# EAGLE library part CIS_CARD (library CougsInSpace-Connectors)
CougSat Card Socket
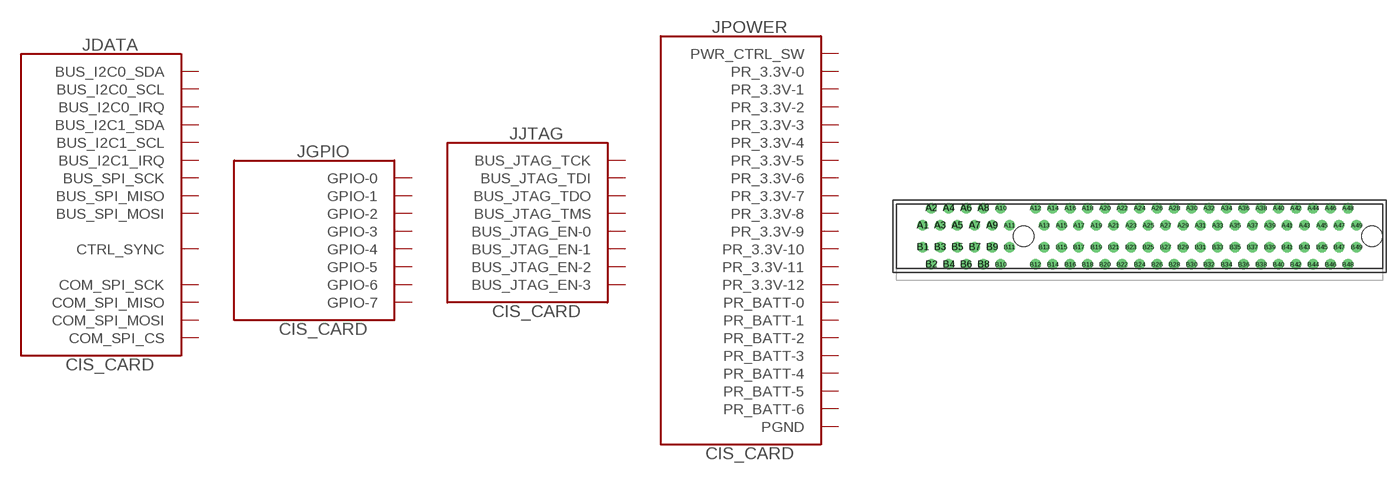
[diagram p3: symbol with the pads of PCIE-8; footprint PCIE-8]

Designator prefix J; gates DATA=CIS_BUS-DATA GPIO=CIS_BUS-GPIO JTAG=CIS_BUS-JTAG POWER=CIS_BUS-POWER

## CIS_CARD-PCIE (SKU: 05-0006; VALUE: CougSat Socket)  [PCIE-8]
A1  POWER:PR_3.3V-0  pwr
A2  POWER:PR_3.3V-1  pwr
A3  POWER:PR_3.3V-2  pwr
A4  POWER:PR_3.3V-3  pwr
A5  POWER:PR_3.3V-4  pwr
A6  POWER:PR_3.3V-5  pwr
A7  POWER:PR_3.3V-6  pwr
A8  POWER:PR_3.3V-7  pwr
A9  POWER:PR_3.3V-8  pwr
A10  POWER:PR_3.3V-9  pwr
A11  POWER:PR_3.3V-10  pwr
A12  POWER:PR_3.3V-11  pwr
A13  POWER:PR_3.3V-12  pwr
A14  POWER:PR_BATT-0  pwr
A15  POWER:PR_BATT-1  pwr
A16  POWER:PR_BATT-2  pwr
A17  POWER:PR_BATT-3  pwr
A18  POWER:PR_BATT-4  pwr
A19  POWER:PR_BATT-5  pwr
A20  POWER:PR_BATT-6  pwr
A21  POWER:PGND  pwr
A22  POWER:PGND  pwr
A23  POWER:PGND  pwr
A24  GPIO:GPIO-0
A25  GPIO:GPIO-1
A26  GPIO:GPIO-2
A27  GPIO:GPIO-3
A28  GPIO:GPIO-4
A29  GPIO:GPIO-5
A30  DATA:BUS_I2C1_SDA
A31  DATA:BUS_I2C1_SCL
A32  DATA:BUS_I2C1_IRQ
A33  DATA:COM_SPI_SCK
A34  DATA:COM_SPI_MISO
A35  DATA:COM_SPI_MOSI
A36  DATA:COM_SPI_CS
A37  DATA:BUS_SPI_SCK
A38  DATA:BUS_SPI_MISO
A39  DATA:BUS_SPI_MOSI
A40  POWER:PWR_CTRL_SW
A41  GPIO:GPIO-6
A42  DATA:CTRL_SYNC
A43  DATA:BUS_I2C0_SDA
A44  DATA:BUS_I2C0_SCL
A45  DATA:BUS_I2C0_IRQ
A46  JTAG:BUS_JTAG_TCK
A47  JTAG:BUS_JTAG_TDI
A48  JTAG:BUS_JTAG_TDO
A49  JTAG:BUS_JTAG_TMS
B1  POWER:PR_3.3V-0  pwr
B2  POWER:PR_3.3V-1  pwr
B3  POWER:PR_3.3V-2  pwr
B4  POWER:PR_3.3V-3  pwr
B5  POWER:PR_3.3V-4  pwr
B6  POWER:PR_3.3V-5  pwr
B7  POWER:PR_3.3V-6  pwr
B8  POWER:PR_3.3V-7  pwr
B9  POWER:PR_3.3V-8  pwr
B10  POWER:PR_3.3V-9  pwr
B11  POWER:PR_3.3V-10  pwr
B12  POWER:PR_3.3V-11  pwr
B13  POWER:PR_3.3V-12  pwr
B14  POWER:PR_BATT-0  pwr
B15  POWER:PR_BATT-1  pwr
B16  POWER:PR_BATT-2  pwr
B17  POWER:PR_BATT-3  pwr
B18  POWER:PR_BATT-4  pwr
B19  POWER:PR_BATT-5  pwr
B20  POWER:PR_BATT-6  pwr
B21  POWER:PGND  pwr
B22  POWER:PGND  pwr
B23  POWER:PGND  pwr
B24  POWER:PGND  pwr
B25  POWER:PGND  pwr
B26  POWER:PGND  pwr
B27  POWER:PGND  pwr
B28  POWER:PGND  pwr
B29  POWER:PGND  pwr
B30  DATA:BUS_I2C1_SDA
B31  DATA:BUS_I2C1_SCL
B32  DATA:BUS_I2C1_IRQ
B33  DATA:COM_SPI_SCK
B34  DATA:COM_SPI_MISO
B35  DATA:COM_SPI_MOSI
B36  DATA:COM_SPI_CS
B37  DATA:BUS_SPI_SCK
B38  DATA:BUS_SPI_MISO
B39  DATA:BUS_SPI_MOSI
B40  POWER:PWR_CTRL_SW
B41  GPIO:GPIO-7
B42  DATA:CTRL_SYNC
B43  DATA:BUS_I2C0_SDA
B44  DATA:BUS_I2C0_SCL
B45  DATA:BUS_I2C0_IRQ
B46  JTAG:BUS_JTAG_EN-0
B47  JTAG:BUS_JTAG_EN-1
B48  JTAG:BUS_JTAG_EN-2
B49  JTAG:BUS_JTAG_EN-3

## Footprint PCIE-8 (pad centres in mm)
PCIe x8
drill 0.7: A1 -11.5,1.25; A2 -10.5,3.25; A3 -9.5,1.25; A4 -8.5,3.25; A5 -7.5,1.25; A6 -6.5,3.25; A7 -5.5,1.25; A8 -4.5,3.25; A9 -3.5,1.25; A10 -2.5,3.25; A11 -1.5,1.25; A12 1.5,3.25; A13 2.5,1.25; A14 3.5,3.25; A15 4.5,1.25; A16 5.5,3.25; A17 6.5,1.25; A18 7.5,3.25; A19 8.5,1.25; A20 9.5,3.25; A21 10.5,1.25; A22 11.5,3.25; A23 12.5,1.25; A24 13.5,3.25; A25 14.5,1.25; A26 15.5,3.25; A27 16.5,1.25; A28 17.5,3.25; A29 18.5,1.25; A30 19.5,3.25; A31 20.5,1.25; A32 21.5,3.25; A33 22.5,1.25; A34 23.5,3.25; A35 24.5,1.25; A36 25.5,3.25; A37 26.5,1.25; A38 27.5,3.25; A39 28.5,1.25; A40 29.5,3.25; A41 30.5,1.25; A42 31.5,3.25; A43 32.5,1.25; A44 33.5,3.25; A45 34.5,1.25; A46 35.5,3.25; A47 36.5,1.25; A48 37.5,3.25; A49 38.5,1.25; B1 -11.5,-1.25; B2 -10.5,-3.25; B3 -9.5,-1.25; B4 -8.5,-3.25; B5 -7.5,-1.25; B6 -6.5,-3.25; B7 -5.5,-1.25; B8 -4.5,-3.25; B9 -3.5,-1.25; B10 -2.5,-3.25; B11 -1.5,-1.25; B12 1.5,-3.25; B13 2.5,-1.25; B14 3.5,-3.25; B15 4.5,-1.25; B16 5.5,-3.25; B17 6.5,-1.25; B18 7.5,-3.25; B19 8.5,-1.25; B20 9.5,-3.25; B21 10.5,-1.25; B22 11.5,-3.25; B23 12.5,-1.25; B24 13.5,-3.25; B25 14.5,-1.25; B26 15.5,-3.25; B27 16.5,-1.25; B28 17.5,-3.25; B29 18.5,-1.25; B30 19.5,-3.25; B31 20.5,-1.25; B32 21.5,-3.25; B33 22.5,-1.25; B34 23.5,-3.25; B35 24.5,-1.25; B36 25.5,-3.25; B37 26.5,-1.25; B38 27.5,-3.25; B39 28.5,-1.25; B40 29.5,-3.25; B41 30.5,-1.25; B42 31.5,-3.25; B43 32.5,-1.25; B44 33.5,-3.25; B45 34.5,-1.25; B46 35.5,-3.25; B47 36.5,-1.25; B48 37.5,-3.25; B49 38.5,-1.25
hole 2.35 at 0.15,0
hole 2.35 at 40.3,0